# EAGLE library part SN65HVD230 (library Aldebaran)
Interfaz IC CAN Transeiver.
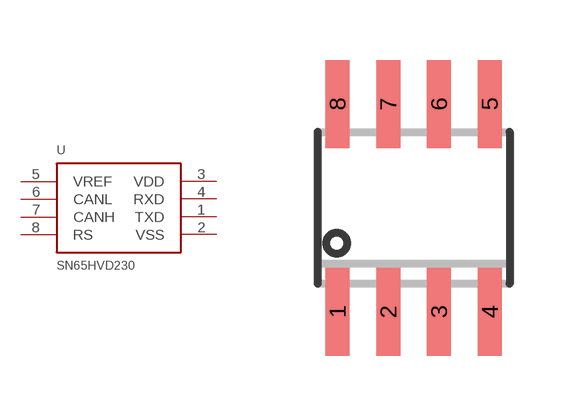
[diagram p6: symbol with the pads of SOIC8_150MIL; footprint SOIC8_150MIL]

Designator prefix -

## SN65HVD230  [SOIC8_150MIL]
1  TXD
2  VSS
3  VDD
4  RXD
5  VREF
6  CANL
7  CANH
8  RS

## Footprint SOIC8_150MIL (pad centres in mm)
Small Outline IC - 150mil Wide
smd 0.6 x 2.2: 1 -1.905,-2.6; 2 -0.635,-2.6; 3 0.635,-2.6; 4 1.905,-2.6; 5 1.905,2.6; 6 0.635,2.6; 7 -0.635,2.6; 8 -1.905,2.6